# Altium footprint library lattice.PcbLib: 1 footprints
Each footprint in its own frame and in the unit in brackets; x right, y up, seen from the top. Pads: shape width x height; smd on the part's side, far side on the other; paste and mask are expansions set on the pad; w line width, h text height; cw(c..) or ccw(c..) is an arc to the next point about the centre after c.
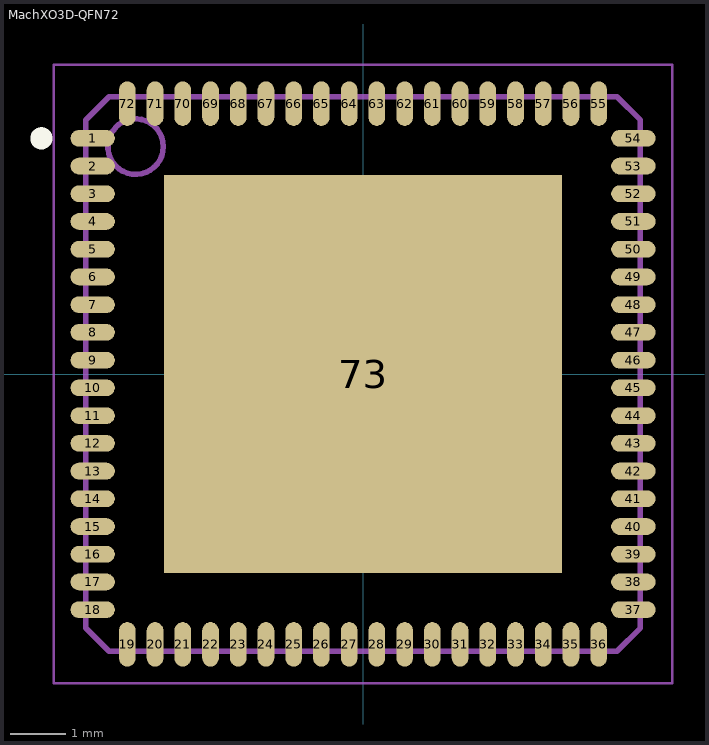
[diagram p0: the footprint, top view; thin cyan lines are the x and y axes]

## MachXO3D-QFN72 [mm] "QFN, 72-Leads, Body 10,00x10,00mm, Pitch 0,50mm, Thermal Pad 7,18x7,18mm, IPC Medium Density"
height 0.9
pads (73):
  oval 0.8x0.3 smd: 1(-4.875,4.25) 2(-4.875,3.75) 3(-4.875,3.25) 4(-4.875,2.75) 5(-4.875,2.25) 6(-4.875,1.75) 7(-4.875,1.25) 8(-4.875,0.75) 9(-4.875,0.25) 10(-4.875,-0.25) 11(-4.875,-0.75) 12(-4.875,-1.25) 13(-4.875,-1.75) 14(-4.875,-2.25) 15(-4.875,-2.75) 16(-4.875,-3.25) 17(-4.875,-3.75) 18(-4.875,-4.25) 37(4.875,-4.25) 38(4.875,-3.75) 39(4.875,-3.25) 40(4.875,-2.75) 41(4.875,-2.25) 42(4.875,-1.75) 43(4.875,-1.25) 44(4.875,-0.75) 45(4.875,-0.25) 46(4.875,0.25) 47(4.875,0.75) 48(4.875,1.25) 49(4.875,1.75) 50(4.875,2.25) 51(4.875,2.75) 52(4.875,3.25) 53(4.875,3.75) 54(4.875,4.25)
  oval 0.3x0.8 smd: 19(-4.25,-4.875) 20(-3.75,-4.875) 21(-3.25,-4.875) 22(-2.75,-4.875) 23(-2.25,-4.875) 24(-1.75,-4.875) 25(-1.25,-4.875) 26(-0.75,-4.875) 27(-0.25,-4.875) 28(0.25,-4.875) 29(0.75,-4.875) 30(1.25,-4.875) 31(1.75,-4.875) 32(2.25,-4.875) 33(2.75,-4.875) 34(3.25,-4.875) 35(3.75,-4.875) 36(4.25,-4.875) 55(4.25,4.875) 56(3.75,4.875) 57(3.25,4.875) 58(2.75,4.875) 59(2.25,4.875) 60(1.75,4.875) 61(1.25,4.875) 62(0.75,4.875) 63(0.25,4.875) 64(-0.25,4.875) 65(-0.75,4.875) 66(-1.25,4.875) 67(-1.75,4.875) 68(-2.25,4.875) 69(-2.75,4.875) 70(-3.25,4.875) 71(-3.75,4.875) 72(-4.25,4.875)
  rect 7.18x7.18 smd: 73(0,0)
Top Overlay:
  circle w0.2: c-5.8,4.25 r0.1
Top 3D Body:
  circle w0.1: c-4.1,4.1 r0.5
  lines w0.1: -5,-4.58 -5,4.58 -4.58,5 4.58,5 5,4.58 5,-4.58 4.58,-5 -4.58,-5 -5,-4.58
Mechanical 15:
  lines w0.05: -5.575,-5.575 5.575,-5.575 5.575,5.575 -5.575,5.575 -5.575,-5.575
  lines w0.1: -0.5,0 0.5,0 ; 0,-0.5 0,0.5
3D body "MachXO3D-QFN72.step": height 0.9, standoff 0, extent -5.001,-5.001 5.001,5.001